# Altium footprint library QFN.PcbLib: 84 footprints (part 3 of 6)
Each footprint in its own frame and in the unit in brackets; x right, y up, seen from the top. Pads: shape width x height; smd on the part's side, far side on the other; paste and mask are expansions set on the pad; w line width, h text height; cw(c..) or ccw(c..) is an arc to the next point about the centre after c.
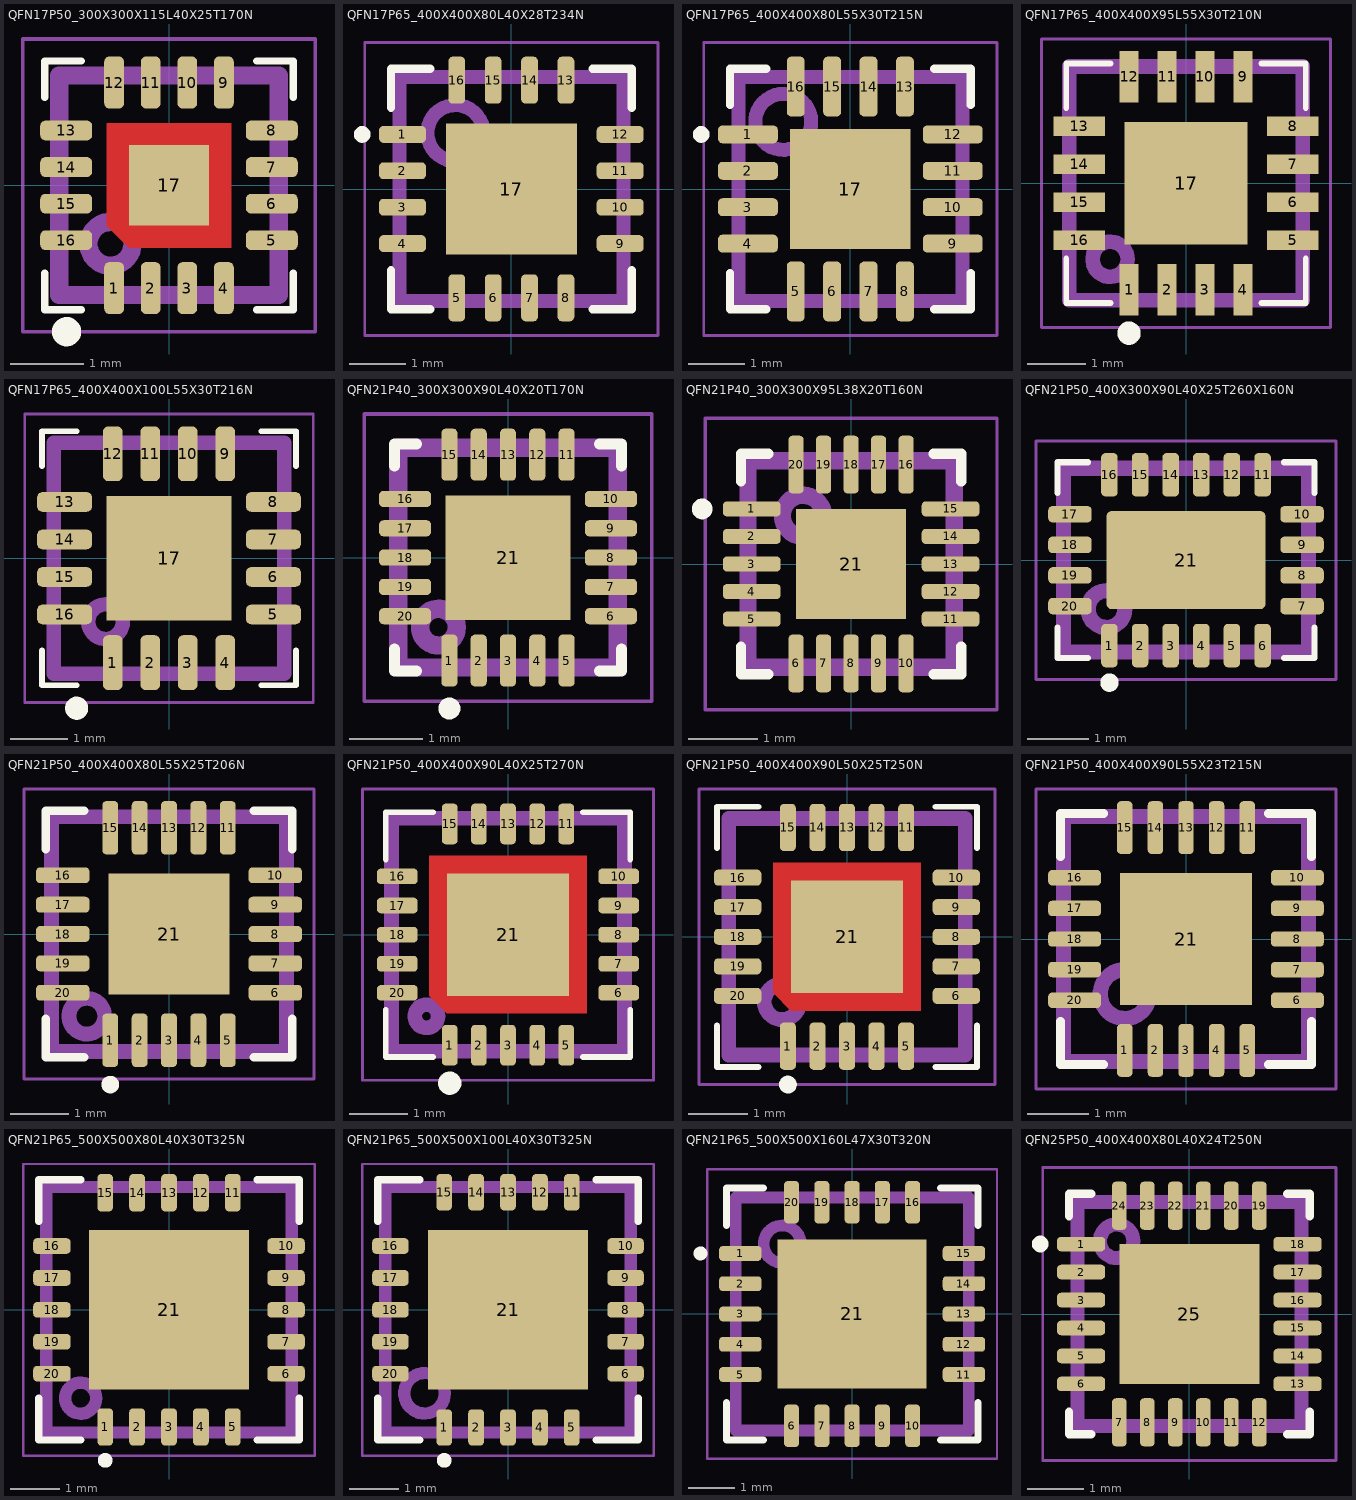
[diagram p2: the footprints below, top view; thin cyan lines are the x and y axes]

## QFN17P50_300X300X115L40X25T170N [mm] "Quad Flat No-Lead (QFN with Tab), 0.50 mm pitch; square, 4 pin X 4 pin, 3.00 mm L X 3.00 mm W X 1.15 mm H body"
height 1.15
pads (17):
  rrect52% 0.27x0.71 smd: 1(-0.75,-1.405) 2(-0.25,-1.405) 3(0.25,-1.405) 4(0.75,-1.405) 9(0.75,1.405) 10(0.25,1.405) 11(-0.25,1.405) 12(-0.75,1.405)
  rrect52% 0.71x0.27 smd: 5(1.405,-0.75) 6(1.405,-0.25) 7(1.405,0.25) 8(1.405,0.75) 13(-1.405,0.75) 14(-1.405,0.25) 15(-1.405,-0.25) 16(-1.405,-0.75)
  rect 1.1x1.1 smd paste-1.1 mask-1.1: 17(0,0)
Top Layer:
  region: 0.85,-0.85 -0.55,-0.85 -0.85,-0.55 -0.85,0.85 0.85,0.85
Top Overlay:
  circle w0.2: c-1.4,-2 r0.1
  lines w0.1: -1.7,-1.2 -1.7,-1.7 -1.2,-1.7 ; -1.7,1.2 -1.7,1.7 -1.2,1.7 ; 1.2,-1.7 1.7,-1.7 1.7,-1.2 ; 1.2,1.7 1.7,1.7 1.7,1.2
Top Paste:
  region: 0.685,-0.685 0.085,-0.685 0.085,-0.085 0.685,-0.085
  region: 0.685,0.085 0.085,0.085 0.085,0.685 0.685,0.685
  region: -0.085,-0.685 -0.685,-0.685 -0.685,-0.085 -0.085,-0.085
  region: -0.085,0.085 -0.685,0.085 -0.685,0.685 -0.085,0.685
Top Solder:
  region: 0.85,-0.85 -0.55,-0.85 -0.85,-0.55 -0.85,0.85 0.85,0.85
Top Assembly:
  circle w0.25: c-0.8,-0.8 r0.3
  lines w0.25: -1.5,-1.5 -1.5,1.5 1.5,1.5 1.5,-1.5 -1.5,-1.5
  text ".Designator" at -2.1,2.1 h1.5
Top Courtyard:
  circle w0.05: c0,0 r0.25
  lines w0.05: -0.35,0 0.35,0 ; 0,-0.35 0,0.35 ; -2,-2 -2,2 2,2 2,-2 -2,-2
3D body "QFN17P50_300X300X115L40X25T170.STEP": height 1.15, standoff 0, extent -1.55,-1.55 1.55,1.55

## QFN17P65_400X400X80L40X28T234N [mm] "Quad Flat No-Lead (QFN with Tab), 0.65 mm pitch; square, 4 pin X 4 pin, 4.00 mm L X 4.00 mm W X 0.80 mm H body"
height 0.8
pads (17):
  rrect53% 0.84x0.3 smd: 1(-1.945,0.975) 2(-1.945,0.325) 3(-1.945,-0.325) 4(-1.945,-0.975) 9(1.945,-0.975) 10(1.945,-0.325) 11(1.945,0.325) 12(1.945,0.975)
  rrect53% 0.3x0.84 smd: 5(-0.975,-1.945) 6(-0.325,-1.945) 7(0.325,-1.945) 8(0.975,-1.945) 13(0.975,1.945) 14(0.325,1.945) 15(-0.325,1.945) 16(-0.975,1.945)
  rect 2.34x2.34 smd paste-2.34: 17(0,0)
Top Overlay:
  circle w0.15: c-2.665,0.975 r0.075
  lines w0.15: -2.15,-1.45 -2.15,-2.15 -1.45,-2.15 ; -2.15,1.45 -2.15,2.15 -1.45,2.15 ; 1.45,-2.15 2.15,-2.15 2.15,-1.45 ; 1.45,2.15 2.15,2.15 2.15,1.45
Top Paste:
  region: -1,-1 -1,-0.17 -0.17,-0.17 -0.17,-1
  region: 0.17,-1 0.17,-0.17 1,-0.17 1,-1
  region: -1,0.17 -1,1 -0.17,1 -0.17,0.17
  region: 0.17,0.17 0.17,1 1,1 1,0.17
Top Assembly:
  circle w0.25: c-1,1 r0.5
  lines w0.25: -2,-2 -2,2 2,2 2,-2 -2,-2
  text ".Designator" at -3.378,-0.339 h1.5
Top Courtyard:
  circle w0.05: c0,0 r0.25
  lines w0.05: -0.35,0 0.35,0 ; 0,-0.35 0,0.35 ; -2.62,-2.62 -2.62,2.62 2.62,2.62 2.62,-2.62 -2.62,-2.62
3D body "QFN17P65_400X400X80L40X28T234.STEP": height 0.8, standoff 0, extent -2.05,-2.05 2.05,2.05

## QFN17P65_400X400X80L55X30T215N [mm] "Quad Flat No-Lead (QFN with Tab), 0.65 mm pitch; square, 4 pin X 4 pin, 4.00 mm L X 4.00 mm W X 0.80 mm H body"
height 0.8
pads (17):
  rrect50% 1.07x0.32 smd: 1(-1.83,0.975) 2(-1.83,0.325) 3(-1.83,-0.325) 4(-1.83,-0.975) 9(1.83,-0.975) 10(1.83,-0.325) 11(1.83,0.325) 12(1.83,0.975)
  rrect50% 0.32x1.07 smd: 5(-0.975,-1.83) 6(-0.325,-1.83) 7(0.325,-1.83) 8(0.975,-1.83) 13(0.975,1.83) 14(0.325,1.83) 15(-0.325,1.83) 16(-0.975,1.83)
  rect 2.15x2.15 smd paste-2.15: 17(0,0)
Top Overlay:
  circle w0.15: c-2.665,0.975 r0.075
  lines w0.15: -2.15,-1.5 -2.15,-2.15 -1.5,-2.15 ; -2.15,1.5 -2.15,2.15 -1.5,2.15 ; 1.5,-2.15 2.15,-2.15 2.15,-1.5 ; 1.5,2.15 2.15,2.15 2.15,1.5
Top Paste:
  region: 0.16,0.16 0.16,0.92 0.92,0.92 0.92,0.16
  region: -0.92,0.16 -0.92,0.92 -0.16,0.92 -0.16,0.16
  region: 0.16,-0.92 0.16,-0.16 0.92,-0.16 0.92,-0.92
  region: -0.92,-0.92 -0.92,-0.16 -0.16,-0.16 -0.16,-0.92
Top Assembly:
  circle w0.25: c-1.2,1.2 r0.5
  lines w0.25: -2,-2 2,-2 2,2 -2,2 -2,-2
  text ".Designator" at -3.378,-0.339 h1.5
Top Courtyard:
  circle w0.05: c0,0 r0.25
  lines w0.05: -0.35,0 0.35,0 ; 0,-0.35 0,0.35 ; -2.62,-2.62 2.62,-2.62 2.62,2.62 -2.62,2.62 -2.62,-2.62
3D body "QFN17P65_400X400X80L55X30T215.STEP": height 0.8, standoff 0, extent -2.05,-2.05 2.05,2.05

## QFN17P65_400X400X95L55X30T210N [mm] "Quad Flat No-Lead (QFN with Tab), 0.65 mm pitch; square, 4 pin X 4 pin, 4.00 mm L X 4.00 mm W X 0.95 mm H body"
height 0.95
pads (17):
  rect 0.33x0.88 smd: 1(-0.975,-1.825) 2(-0.325,-1.825) 3(0.325,-1.825) 4(0.975,-1.825) 9(0.975,1.825) 10(0.325,1.825) 11(-0.325,1.825) 12(-0.975,1.825)
  rect 0.88x0.33 smd: 5(1.825,-0.975) 6(1.825,-0.325) 7(1.825,0.325) 8(1.825,0.975) 13(-1.825,0.975) 14(-1.825,0.325) 15(-1.825,-0.325) 16(-1.825,-0.975)
  rect 2.1x2.1 smd paste-2.1: 17(0,0)
Top Overlay:
  circle w0.2: c-0.975,-2.565 r0.1
  lines w0.1: -2.05,-1.29 -2.05,-2.05 -1.29,-2.05 ; -2.05,1.29 -2.05,2.05 -1.29,2.05 ; 1.29,-2.05 2.05,-2.05 2.05,-1.29 ; 1.29,2.05 2.05,2.05 2.05,1.29
Top Paste:
  region: -0.105,0.105 -0.845,0.105 -0.845,0.845 -0.105,0.845
  region: -0.105,-0.845 -0.845,-0.845 -0.845,-0.105 -0.105,-0.105
  region: 0.845,0.105 0.105,0.105 0.105,0.845 0.845,0.845
  region: 0.845,-0.845 0.105,-0.845 0.105,-0.105 0.845,-0.105
Top Assembly:
  circle w0.25: c-1.3,-1.3 r0.3
  lines w0.25: -2,-2 2,-2 2,2 -2,2 -2,-2
  text ".Designator" at -1.7,-0.3 h1.5
Top Courtyard:
  circle w0.05: c0,0 r0.25
  lines w0.05: -0.35,0 0.35,0 ; 0,-0.35 0,0.35 ; -2.47,-2.47 2.47,-2.47 2.47,2.47 -2.47,2.47 -2.47,-2.47
3D body "QFN17P65_400X400X95L55X30T210.STEP": height 0.95, standoff 0, extent -2.05,-2.05 2.05,2.05

## QFN17P65_400X400X100L55X30T216N [mm] "Quad Flat No-Lead (QFN with Tab), 0.65 mm pitch; square, 4 pin X 4 pin, 4.00 mm L X 4.00 mm W X 1.00 mm H body"
height 1
pads (17):
  rrect53% 0.34x0.95 smd: 1(-0.975,-1.81) 2(-0.325,-1.81) 3(0.325,-1.81) 4(0.975,-1.81) 9(0.975,1.81) 10(0.325,1.81) 11(-0.325,1.81) 12(-0.975,1.81)
  rrect53% 0.95x0.34 smd: 5(1.81,-0.975) 6(1.81,-0.325) 7(1.81,0.325) 8(1.81,0.975) 13(-1.81,0.975) 14(-1.81,0.325) 15(-1.81,-0.325) 16(-1.81,-0.975)
  rect 2.16x2.16 smd paste-2.16: 17(0,0)
Top Overlay:
  circle w0.2: c-1.6,-2.6 r0.1
  lines w0.1: -2.2,-1.6 -2.2,-2.2 -1.6,-2.2 ; -2.2,1.6 -2.2,2.2 -1.6,2.2 ; 1.6,-2.2 2.2,-2.2 2.2,-1.6 ; 1.6,2.2 2.2,2.2 2.2,1.6
Top Paste:
  region: 0.865,-0.865 0.105,-0.865 0.105,-0.105 0.865,-0.105
  region: 0.865,0.105 0.105,0.105 0.105,0.865 0.865,0.865
  region: -0.105,-0.865 -0.865,-0.865 -0.865,-0.105 -0.105,-0.105
  region: -0.105,0.105 -0.865,0.105 -0.865,0.865 -0.105,0.865
Top Assembly:
  circle w0.25: c-1.1,-1.1 r0.3
  lines w0.25: -2,-2 -2,2 2,2 2,-2 -2,-2
  text ".Designator" at -1.8,-0.3 h1.5
Top Courtyard:
  circle w0.05: c0,0 r0.25
  lines w0.05: -0.35,0 0.35,0 ; 0,-0.35 0,0.35 ; -2.5,-2.5 -2.5,2.5 2.5,2.5 2.5,-2.5 -2.5,-2.5
3D body "QFN17P65_400X400X100L55X30T216.STEP": height 1, standoff 0, extent -2.05,-2.05 2.05,2.05

## QFN21P40_300X300X90L40X20T170N [mm] "Quad Flat No-Lead (QFN with Tab), 0.40 mm pitch; square, 5 pin X 5 pin, 3.00 mm L X 3.00 mm W X 0.90 mm H body"
height 0.9
pads (21):
  rrect55% 0.22x0.71 smd: 1(-0.8,-1.405) 2(-0.4,-1.405) 3(0,-1.405) 4(0.4,-1.405) 5(0.8,-1.405) 11(0.8,1.405) 12(0.4,1.405) 13(0,1.405) 14(-0.4,1.405) 15(-0.8,1.405)
  rrect55% 0.71x0.22 smd: 6(1.405,-0.8) 7(1.405,-0.4) 8(1.405,0) 9(1.405,0.4) 10(1.405,0.8) 16(-1.405,0.8) 17(-1.405,0.4) 18(-1.405,0) 19(-1.405,-0.4) 20(-1.405,-0.8)
  rect 1.7x1.7 smd paste-1.7: 21(0,0)
Top Overlay:
  circle w0.15: c-0.8,-2.06 r0.075
  lines w0.15: -1.55,-1.25 -1.55,-1.55 -1.25,-1.55 ; -1.55,1.25 -1.55,1.55 -1.25,1.55 ; 1.25,-1.55 1.55,-1.55 1.55,-1.25 ; 1.25,1.55 1.55,1.55 1.55,1.25
Top Paste:
  region: -0.125,0.125 -0.725,0.125 -0.725,0.725 -0.125,0.725
  region: -0.125,-0.725 -0.725,-0.725 -0.725,-0.125 -0.125,-0.125
  region: 0.725,0.125 0.125,0.125 0.125,0.725 0.725,0.725
  region: 0.725,-0.725 0.125,-0.725 0.125,-0.125 0.725,-0.125
Top Assembly:
  circle w0.25: c-0.95,-0.95 r0.25
  lines w0.25: -1.5,-1.5 1.5,-1.5 1.5,1.5 -1.5,1.5 -1.5,-1.5
  text ".Designator" at -3.378,-0.339 h1.5
Top Courtyard:
  circle w0.05: c0,0 r0.25
  lines w0.05: -0.35,0 0.35,0 ; 0,-0.35 0,0.35 ; -1.96,-1.96 1.96,-1.96 1.96,1.96 -1.96,1.96 -1.96,-1.96
3D body "QFN21P40_300X300X90L40X20T170.STEP": height 0.9, standoff 0, extent -1.55,-1.55 1.55,1.55

## QFN21P40_300X300X95L38X20T160N [mm] "Quad Flat No-Lead (QFN with Tab), 0.40 mm pitch; square, 5 pin X 5 pin, 3.00 mm L X 3.00 mm W X 0.95 mm H body"
height 0.95
pads (21):
  rrect55% 0.84x0.22 smd: 1(-1.445,0.8) 2(-1.445,0.4) 3(-1.445,0) 4(-1.445,-0.4) 5(-1.445,-0.8) 11(1.445,-0.8) 12(1.445,-0.4) 13(1.445,0) 14(1.445,0.4) 15(1.445,0.8)
  rrect55% 0.22x0.84 smd: 6(-0.8,-1.445) 7(-0.4,-1.445) 8(0,-1.445) 9(0.4,-1.445) 10(0.8,-1.445) 16(0.8,1.445) 17(0.4,1.445) 18(0,1.445) 19(-0.4,1.445) 20(-0.8,1.445)
  rect 1.6x1.6 smd paste-1.6: 21(0,0)
Top Overlay:
  circle w0.15: c-2.165,0.8 r0.075
  lines w0.15: -1.6,-1.2 -1.6,-1.6 -1.2,-1.6 ; -1.6,1.2 -1.6,1.6 -1.2,1.6 ; 1.2,-1.6 1.6,-1.6 1.6,-1.2 ; 1.2,1.6 1.6,1.6 1.6,1.2
Top Paste:
  region: -0.685,-0.685 -0.685,-0.115 -0.115,-0.115 -0.115,-0.685
  region: 0.115,-0.685 0.115,-0.115 0.685,-0.115 0.685,-0.685
  region: -0.685,0.115 -0.685,0.685 -0.115,0.685 -0.115,0.115
  region: 0.115,0.115 0.115,0.685 0.685,0.685 0.685,0.115
Top Assembly:
  circle w0.25: c-0.7,0.7 r0.3
  lines w0.25: -1.5,-1.5 -1.5,1.5 1.5,1.5 1.5,-1.5 -1.5,-1.5
  text ".Designator" at -3.378,-0.339 h1.5
Top Courtyard:
  circle w0.05: c0,0 r0.25
  lines w0.05: -0.35,0 0.35,0 ; 0,-0.35 0,0.35 ; -2.12,-2.12 -2.12,2.12 2.12,2.12 2.12,-2.12 -2.12,-2.12
3D body "QFN21P40_300X300X95L38X20T160.STEP": height 0.95, standoff 0, extent -1.55,-1.55 1.55,1.55

## QFN21P50_400X300X90L40X25T260X160N [mm] "Quad Flat No-Lead (QFN with Tab), 0.50 mm pitch; rect., 6 pin X 4 pin, 4.00 mm L X 3.00 mm W X 0.90 mm H body"
height 0.9
pads (21):
  rrect52% 0.27x0.71 smd: 1(-1.25,-1.395) 2(-0.75,-1.395) 3(-0.25,-1.395) 4(0.25,-1.395) 5(0.75,-1.395) 6(1.25,-1.395) 11(1.25,1.395) 12(0.75,1.395) 13(0.25,1.395) 14(-0.25,1.395) 15(-0.75,1.395) 16(-1.25,1.395)
  rrect52% 0.71x0.27 smd: 7(1.895,-0.75) 8(1.895,-0.25) 9(1.895,0.25) 10(1.895,0.75) 17(-1.895,0.75) 18(-1.895,0.25) 19(-1.895,-0.25) 20(-1.895,-0.75)
  rrect10% 2.6x1.6 smd paste-2539.97 mask-2.4: 21(0,0)
Top Overlay:
  circle w0.15: c-1.25,-2 r0.075
  lines w0.1: -2.1,-1.1 -2.1,-1.6 -1.6,-1.6 ; -2.1,1.1 -2.1,1.6 -1.6,1.6 ; 1.6,-1.6 2.1,-1.6 2.1,-1.1 ; 1.6,1.6 2.1,1.6 2.1,1.1
Top Paste:
  region: -0.145,0.145 -1.155,0.145 -1.155,0.655 -0.145,0.655
  region: -0.145,-0.655 -1.155,-0.655 -1.155,-0.145 -0.145,-0.145
  region: 1.155,0.145 0.145,0.145 0.145,0.655 1.155,0.655
  region: 1.155,-0.655 0.145,-0.655 0.145,-0.145 1.155,-0.145
Top Solder:
  region: 1.3,-0.8 -1.3,-0.8 -1.3,0.8 1.3,0.8
Top Assembly:
  circle w0.25: c-1.3,-0.8 r0.3
  lines w0.25: -2,-1.5 2,-1.5 2,1.5 -2,1.5 -2,-1.5
  text ".Designator" at -1.7,0 h1.5
Top Courtyard:
  circle w0.05: c0,0 r0.25
  lines w0.05: -0.35,0 0.35,0 ; 0,-0.35 0,0.35 ; -2.45,-1.95 2.45,-1.95 2.45,1.95 -2.45,1.95 -2.45,-1.95
3D body "QFN21P50_400X300X90L40X25T260X160.STEP": height 0.9, standoff 0, extent -2.05,-1.55 2.05,1.55

## QFN21P50_400X400X80L55X25T206N [mm] "Quad Flat No-Lead (QFN with Tab), 0.50 mm pitch; square, 5 pin X 5 pin, 4.00 mm L X 4.00 mm W X 0.80 mm H body"
height 0.8
pads (21):
  rrect52% 0.27x0.91 smd: 1(-1,-1.81) 2(-0.5,-1.81) 3(0,-1.81) 4(0.5,-1.81) 5(1,-1.81) 11(1,1.81) 12(0.5,1.81) 13(0,1.81) 14(-0.5,1.81) 15(-1,1.81)
  rrect52% 0.91x0.27 smd: 6(1.81,-1) 7(1.81,-0.5) 8(1.81,0) 9(1.81,0.5) 10(1.81,1) 16(-1.81,1) 17(-1.81,0.5) 18(-1.81,0) 19(-1.81,-0.5) 20(-1.81,-1)
  rect 2.06x2.06 smd paste-2.06: 21(0,0)
Top Overlay:
  circle w0.15: c-1,-2.565 r0.075
  lines w0.15: -2.1,-1.45 -2.1,-2.1 -1.45,-2.1 ; -2.1,1.45 -2.1,2.1 -1.45,2.1 ; 1.45,-2.1 2.1,-2.1 2.1,-1.45 ; 1.45,2.1 2.1,2.1 2.1,1.45
Top Paste:
  region: -0.15,0.15 -0.88,0.15 -0.88,0.88 -0.15,0.88
  region: -0.15,-0.88 -0.88,-0.88 -0.88,-0.15 -0.15,-0.15
  region: 0.88,0.15 0.15,0.15 0.15,0.88 0.88,0.88
  region: 0.88,-0.88 0.15,-0.88 0.15,-0.15 0.88,-0.15
Top Assembly:
  circle w0.25: c-1.4,-1.4 r0.304
  lines w0.25: -2,-2 2,-2 2,2 -2,2 -2,-2
  text ".Designator" at -3.378,-0.339 h1.5
Top Courtyard:
  circle w0.05: c0,0 r0.25
  lines w0.05: -0.35,0 0.35,0 ; 0,-0.35 0,0.35 ; -2.47,-2.47 2.47,-2.47 2.47,2.47 -2.47,2.47 -2.47,-2.47
3D body "QFN21P50_400X400X80L55X25T206.STEP": height 0.8, standoff 0, extent -2.05,-2.05 2.05,2.05

## QFN21P50_400X400X90L40X25T270N [mm] "Quad Flat No-Lead (QFN with Tab), 0.50 mm pitch; square, 5 pin X 5 pin, 4.00 mm L X 4.00 mm W X 0.90 mm H body"
height 0.9
pads (21):
  rrect52% 0.27x0.7 smd: 1(-1,-1.9) 2(-0.5,-1.9) 3(0,-1.9) 4(0.5,-1.9) 5(1,-1.9) 11(1,1.9) 12(0.5,1.9) 13(0,1.9) 14(-0.5,1.9) 15(-1,1.9)
  rrect52% 0.7x0.27 smd: 6(1.9,-1) 7(1.9,-0.5) 8(1.9,0) 9(1.9,0.5) 10(1.9,1) 16(-1.9,1) 17(-1.9,0.5) 18(-1.9,0) 19(-1.9,-0.5) 20(-1.9,-1)
  rect 2.1x2.1 smd paste-2.1 mask-2.1: 21(0,0)
Top Layer:
  region: 1.35,-1.35 -1.05,-1.35 -1.35,-1.05 -1.35,1.35 1.35,1.35
Top Overlay:
  circle w0.2: c-1,-2.55 r0.1
  lines w0.1: -2.1,-1.29 -2.1,-2.1 -1.29,-2.1 ; -2.1,1.29 -2.1,2.1 -1.29,2.1 ; 1.29,-2.1 2.1,-2.1 2.1,-1.29 ; 1.29,2.1 2.1,2.1 2.1,1.29
Top Paste:
  region: -0.13,0.13 -1.09,0.13 -1.09,1.09 -0.13,1.09
  region: -0.13,-1.09 -1.09,-1.09 -1.09,-0.13 -0.13,-0.13
  region: 1.09,0.13 0.13,0.13 0.13,1.09 1.09,1.09
  region: 1.09,-1.09 0.13,-1.09 0.13,-0.13 1.09,-0.13
Top Solder:
  region: 1.35,-1.35 -1.05,-1.35 -1.35,-1.05 -1.35,1.35 1.35,1.35
Top Assembly:
  circle w0.25: c-1.4,-1.4 r0.2
  lines w0.25: -2,-2 2,-2 2,2 -2,2 -2,-2
  text ".Designator" at -1.8,-0.4 h1.5
Top Courtyard:
  circle w0.05: c0,0 r0.25
  lines w0.05: -0.35,0 0.35,0 ; 0,-0.35 0,0.35 ; -2.5,-2.5 2.5,-2.5 2.5,2.5 -2.5,2.5 -2.5,-2.5
3D body "QFN21P50_400X400X90L40X25T270.STEP": height 0.9, standoff 0, extent -2.05,-2.05 2.05,2.05

## QFN21P50_400X400X90L50X25T250N [mm] "Quad Flat No-Lead (QFN with Tab), 0.50 mm pitch; square, 5 pin X 5 pin, 4.00 mm L X 4.00 mm W X 0.90 mm H body"
height 0.9
pads (21):
  rrect52% 0.27x0.8 smd: 1(-1,-1.85) 2(-0.5,-1.85) 3(0,-1.85) 4(0.5,-1.85) 5(1,-1.85) 11(1,1.85) 12(0.5,1.85) 13(0,1.85) 14(-0.5,1.85) 15(-1,1.85)
  rrect52% 0.8x0.27 smd: 6(1.85,-1) 7(1.85,-0.5) 8(1.85,0) 9(1.85,0.5) 10(1.85,1) 16(-1.85,1) 17(-1.85,0.5) 18(-1.85,0) 19(-1.85,-0.5) 20(-1.85,-1)
  rect 1.9x1.9 smd paste-1.9 mask-1.9: 21(0,0)
Top Layer:
  region: 1.25,-1.25 -0.95,-1.25 -1.25,-0.95 -1.25,1.25 1.25,1.25
Top Overlay:
  circle w0.15: c-1,-2.5 r0.075
  lines w0.1: -2.2,-1.5 -2.2,-2.2 -1.5,-2.2 ; -2.2,1.5 -2.2,2.2 -1.5,2.2 ; 1.5,-2.2 2.2,-2.2 2.2,-1.5 ; 1.5,2.2 2.2,2.2 2.2,1.5
Top Paste:
  region: -0.185,0.185 -1.065,0.185 -1.065,1.065 -0.185,1.065
  region: -0.185,-1.065 -1.065,-1.065 -1.065,-0.185 -0.185,-0.185
  region: 1.065,0.185 0.185,0.185 0.185,1.065 1.065,1.065
  region: 1.065,-1.065 0.185,-1.065 0.185,-0.185 1.065,-0.185
Top Solder:
  region: 1.25,-1.25 -0.95,-1.25 -1.25,-0.95 -1.25,1.25 1.25,1.25
Top Assembly:
  circle w0.25: c-1.1,-1.1 r0.3
  lines w0.25: -2,-2 2,-2 2,2 -2,2 -2,-2
  text ".Designator" at -1.7,-0.4 h1.5
Top Courtyard:
  circle w0.05: c0,0 r0.25
  lines w0.05: -0.35,0 0.35,0 ; 0,-0.35 0,0.35 ; -2.5,-2.5 2.5,-2.5 2.5,2.5 -2.5,2.5 -2.5,-2.5
3D body "QFN21P50_400X400X90L50X25T250.STEP": height 0.9, standoff 0, extent -2.05,-2.05 2.05,2.05

## QFN21P50_400X400X90L55X23T215N [mm] "Quad Flat No-Lead (QFN with Tab), 0.50 mm pitch; square, 5 pin X 5 pin, 4.00 mm L X 4.00 mm W X 0.90 mm H body"
height 0.9
pads (21):
  rrect48% 0.25x0.86 smd: 1(-1,-1.82) 2(-0.5,-1.82) 3(0,-1.82) 4(0.5,-1.82) 5(1,-1.82) 11(1,1.82) 12(0.5,1.82) 13(0,1.82) 14(-0.5,1.82) 15(-1,1.82)
  rrect48% 0.86x0.25 smd: 6(1.82,-1) 7(1.82,-0.5) 8(1.82,0) 9(1.82,0.5) 10(1.82,1) 16(-1.82,1) 17(-1.82,0.5) 18(-1.82,0) 19(-1.82,-0.5) 20(-1.82,-1)
  rect 2.15x2.15 smd paste-2.15: 21(0,0)
Top Overlay:
  lines w0.15: -2.05,-1.35 -2.05,-2.05 -1.35,-2.05 ; -2.05,1.35 -2.05,2.05 -1.35,2.05 ; 1.35,-2.05 2.05,-2.05 2.05,-1.35 ; 1.35,2.05 2.05,2.05 2.05,1.35
Top Paste:
  region: -0.16,0.16 -0.92,0.16 -0.92,0.92 -0.16,0.92
  region: -0.16,-0.92 -0.92,-0.92 -0.92,-0.16 -0.16,-0.16
  region: 0.92,0.16 0.16,0.16 0.16,0.92 0.92,0.92
  region: 0.92,-0.92 0.16,-0.92 0.16,-0.16 0.92,-0.16
Top Assembly:
  circle w0.25: c-1,-0.9 r0.4
  lines w0.25: -2,-2 2,-2 2,2 -2,2 -2,-2
  text ".Designator" at -1.6,0.2 h1.5
Top Courtyard:
  circle w0.05: c0,0 r0.25
  lines w0.05: -0.35,0 0.35,0 ; 0,-0.35 0,0.35 ; -2.45,-2.45 2.45,-2.45 2.45,2.45 -2.45,2.45 -2.45,-2.45
3D body "QFN21P50_400X400X90L55X23T215.STEP": height 0.9, standoff 0, extent -2.05,-2.05 2.05,2.05

## QFN21P65_500X500X80L40X30T325N [mm] "Quad Flat No-Lead (QFN with Tab), 0.65 mm pitch; square, 5 pin X 5 pin, 5.00 mm L X 5.00 mm W X 0.80 mm H body"
height 0.8
pads (21):
  rrect50% 0.32x0.76 smd: 1(-1.3,-2.385) 2(-0.65,-2.385) 3(0,-2.385) 4(0.65,-2.385) 5(1.3,-2.385) 11(1.3,2.385) 12(0.65,2.385) 13(0,2.385) 14(-0.65,2.385) 15(-1.3,2.385)
  rrect50% 0.76x0.32 smd: 6(2.385,-1.3) 7(2.385,-0.65) 8(2.385,0) 9(2.385,0.65) 10(2.385,1.3) 16(-2.385,1.3) 17(-2.385,0.65) 18(-2.385,0) 19(-2.385,-0.65) 20(-2.385,-1.3)
  rect 3.25x3.25 smd paste-3.25: 21(0,0)
Top Overlay:
  circle w0.15: c-1.3,-3.065 r0.075
  lines w0.15: -2.65,-1.8 -2.65,-2.65 -1.8,-2.65 ; -2.65,1.8 -2.65,2.65 -1.8,2.65 ; 1.8,-2.65 2.65,-2.65 2.65,-1.8 ; 1.8,2.65 2.65,2.65 2.65,1.8
Top Paste:
  region: -0.24,0.24 -1.39,0.24 -1.39,1.39 -0.24,1.39
  region: -0.24,-1.39 -1.39,-1.39 -1.39,-0.24 -0.24,-0.24
  region: 1.39,0.24 0.24,0.24 0.24,1.39 1.39,1.39
  region: 1.39,-1.39 0.24,-1.39 0.24,-0.24 1.39,-0.24
Top Assembly:
  circle w0.25: c-1.8,-1.8 r0.316
  lines w0.25: -2.5,-2.5 2.5,-2.5 2.5,2.5 -2.5,2.5 -2.5,-2.5
  text ".Designator" at -3.378,-0.339 h1.5
Top Courtyard:
  circle w0.05: c0,0 r0.25
  lines w0.05: -0.35,0 0.35,0 ; 0,-0.35 0,0.35 ; -2.97,-2.97 2.97,-2.97 2.97,2.97 -2.97,2.97 -2.97,-2.97
3D body "QFN21P65_500X500X80L40X30T325.STEP": height 0.8, standoff 0, extent -2.55,-2.55 2.55,2.55

## QFN21P65_500X500X100L40X30T325N [mm] "Quad Flat No-Lead (QFN with Tab), 0.65 mm pitch; square, 5 pin X 5 pin, 5.00 mm L X 5.00 mm W X 1.00 mm H body"
height 1
pads (21):
  rrect50% 0.32x0.74 smd: 1(-1.3,-2.395) 2(-0.65,-2.395) 3(0,-2.395) 4(0.65,-2.395) 5(1.3,-2.395) 11(1.3,2.395) 12(0.65,2.395) 13(0,2.395) 14(-0.65,2.395) 15(-1.3,2.395)
  rrect50% 0.74x0.32 smd: 6(2.395,-1.3) 7(2.395,-0.65) 8(2.395,0) 9(2.395,0.65) 10(2.395,1.3) 16(-2.395,1.3) 17(-2.395,0.65) 18(-2.395,0) 19(-2.395,-0.65) 20(-2.395,-1.3)
  rect 3.25x3.25 smd paste-3.25: 21(0,0)
Top Overlay:
  circle w0.15: c-1.3,-3.065 r0.075
  lines w0.15: -2.65,-1.8 -2.65,-2.65 -1.8,-2.65 ; -2.65,1.8 -2.65,2.65 -1.8,2.65 ; 1.8,-2.65 2.65,-2.65 2.65,-1.8 ; 1.8,2.65 2.65,2.65 2.65,1.8
Top Paste:
  region: -0.24,0.24 -1.39,0.24 -1.39,1.39 -0.24,1.39
  region: -0.24,-1.39 -1.39,-1.39 -1.39,-0.24 -0.24,-0.24
  region: 1.39,0.24 0.24,0.24 0.24,1.39 1.39,1.39
  region: 1.39,-1.39 0.24,-1.39 0.24,-0.24 1.39,-0.24
Top Assembly:
  circle w0.25: c-1.7,-1.7 r0.412
  lines w0.25: -2.5,-2.5 2.5,-2.5 2.5,2.5 -2.5,2.5 -2.5,-2.5
  text ".Designator" at -3.378,-0.339 h1.5
Top Courtyard:
  circle w0.05: c0,0 r0.25
  lines w0.05: -0.35,0 0.35,0 ; 0,-0.35 0,0.35 ; -2.97,-2.97 2.97,-2.97 2.97,2.97 -2.97,2.97 -2.97,-2.97
3D body "QFN21P65_500X500X100L40X30T325.STEP": height 1, standoff 0, extent -2.55,-2.55 2.55,2.55

## QFN21P65_500X500X160L47X30T320N [mm] "Quad Flat No-Lead (QFN with Tab), 0.65 mm pitch; square, 5 pin X 5 pin, 5.00 mm L X 5.00 mm W X 1.60 mm H body"
height 1.6
pads (21):
  rrect50% 0.91x0.32 smd: 1(-2.4,1.3) 2(-2.4,0.65) 3(-2.4,0) 4(-2.4,-0.65) 5(-2.4,-1.3) 11(2.4,-1.3) 12(2.4,-0.65) 13(2.4,0) 14(2.4,0.65) 15(2.4,1.3)
  rrect50% 0.32x0.91 smd: 6(-1.3,-2.4) 7(-0.65,-2.4) 8(0,-2.4) 9(0.65,-2.4) 10(1.3,-2.4) 16(1.3,2.4) 17(0.65,2.4) 18(0,2.4) 19(-0.65,2.4) 20(-1.3,2.4)
  rect 3.2x3.2 smd paste-3.2: 21(0,0)
Top Overlay:
  circle w0.15: c-3.255,1.3 r0.075
  lines w0.15: -2.7,-1.9 -2.7,-2.7 -1.9,-2.7 ; -2.7,1.9 -2.7,2.7 -1.9,2.7 ; 1.9,-2.7 2.7,-2.7 2.7,-1.9 ; 1.9,2.7 2.7,2.7 2.7,1.9
Top Paste:
  region: -1.365,-1.365 -1.365,-0.235 -0.235,-0.235 -0.235,-1.365
  region: 0.235,-1.365 0.235,-0.235 1.365,-0.235 1.365,-1.365
  region: -1.365,0.235 -1.365,1.365 -0.235,1.365 -0.235,0.235
  region: 0.235,0.235 0.235,1.365 1.365,1.365 1.365,0.235
Top Assembly:
  circle w0.25: c-1.5,1.5 r0.4
  lines w0.25: -2.5,-2.5 -2.5,2.5 2.5,2.5 2.5,-2.5 -2.5,-2.5
  text ".Designator" at -3.378,-0.339 h1.5
Top Courtyard:
  circle w0.05: c0,0 r0.25
  lines w0.05: -0.35,0 0.35,0 ; 0,-0.35 0,0.35 ; -3.11,-3.11 -3.11,3.11 3.11,3.11 3.11,-3.11 -3.11,-3.11
3D body "QFN21P65_500X500X160L47X30T320.STEP": height 1.6, standoff 0, extent -2.55,-2.55 2.55,2.55

## QFN25P50_400X400X80L40X24T250N [mm] "Quad Flat No-Lead (QFN with Tab), 0.50 mm pitch; square, 6 pin X 6 pin, 4.00 mm L X 4.00 mm W X 0.80 mm H body"
height 0.8
pads (25):
  rrect54% 0.86x0.26 smd: 1(-1.935,1.25) 2(-1.935,0.75) 3(-1.935,0.25) 4(-1.935,-0.25) 5(-1.935,-0.75) 6(-1.935,-1.25) 13(1.935,-1.25) 14(1.935,-0.75) 15(1.935,-0.25) 16(1.935,0.25) 17(1.935,0.75) 18(1.935,1.25)
  rrect54% 0.26x0.86 smd: 7(-1.25,-1.935) 8(-0.75,-1.935) 9(-0.25,-1.935) 10(0.25,-1.935) 11(0.75,-1.935) 12(1.25,-1.935) 19(1.25,1.935) 20(0.75,1.935) 21(0.25,1.935) 22(-0.25,1.935) 23(-0.75,1.935) 24(-1.25,1.935)
  rect 2.5x2.5 smd paste-2.5: 25(0,0)
Top Overlay:
  circle w0.15: c-2.665,1.25 r0.075
  lines w0.15: -2.15,-1.75 -2.15,-2.15 -1.75,-2.15 ; -2.15,1.75 -2.15,2.15 -1.75,2.15 ; 1.75,-2.15 2.15,-2.15 2.15,-1.75 ; 1.75,2.15 2.15,2.15 2.15,1.75
Top Paste:
  region: -1.065,-1.065 -1.065,-0.185 -0.185,-0.185 -0.185,-1.065
  region: 0.185,-1.065 0.185,-0.185 1.065,-0.185 1.065,-1.065
  region: -1.065,0.185 -1.065,1.065 -0.185,1.065 -0.185,0.185
  region: 0.185,0.185 0.185,1.065 1.065,1.065 1.065,0.185
Top Assembly:
  circle w0.25: c-1.3,1.3 r0.3
  lines w0.25: -2,-2 -2,2 2,2 2,-2 -2,-2
  text ".Designator" at -3.378,-0.339 h1.5
Top Courtyard:
  circle w0.05: c0,0 r0.25
  lines w0.05: -0.35,0 0.35,0 ; 0,-0.35 0,0.35 ; -2.62,-2.62 -2.62,2.62 2.62,2.62 2.62,-2.62 -2.62,-2.62
3D body "QFN25P50_400X400X80L40X24T250.STEP": height 0.8, standoff 0, extent -2.05,-2.05 2.05,2.05